# Altium schematic symbol library MCD_Rev2.SchLib: 19 symbols
Pins are listed as number, name and electrical type; pins without a type are passive.

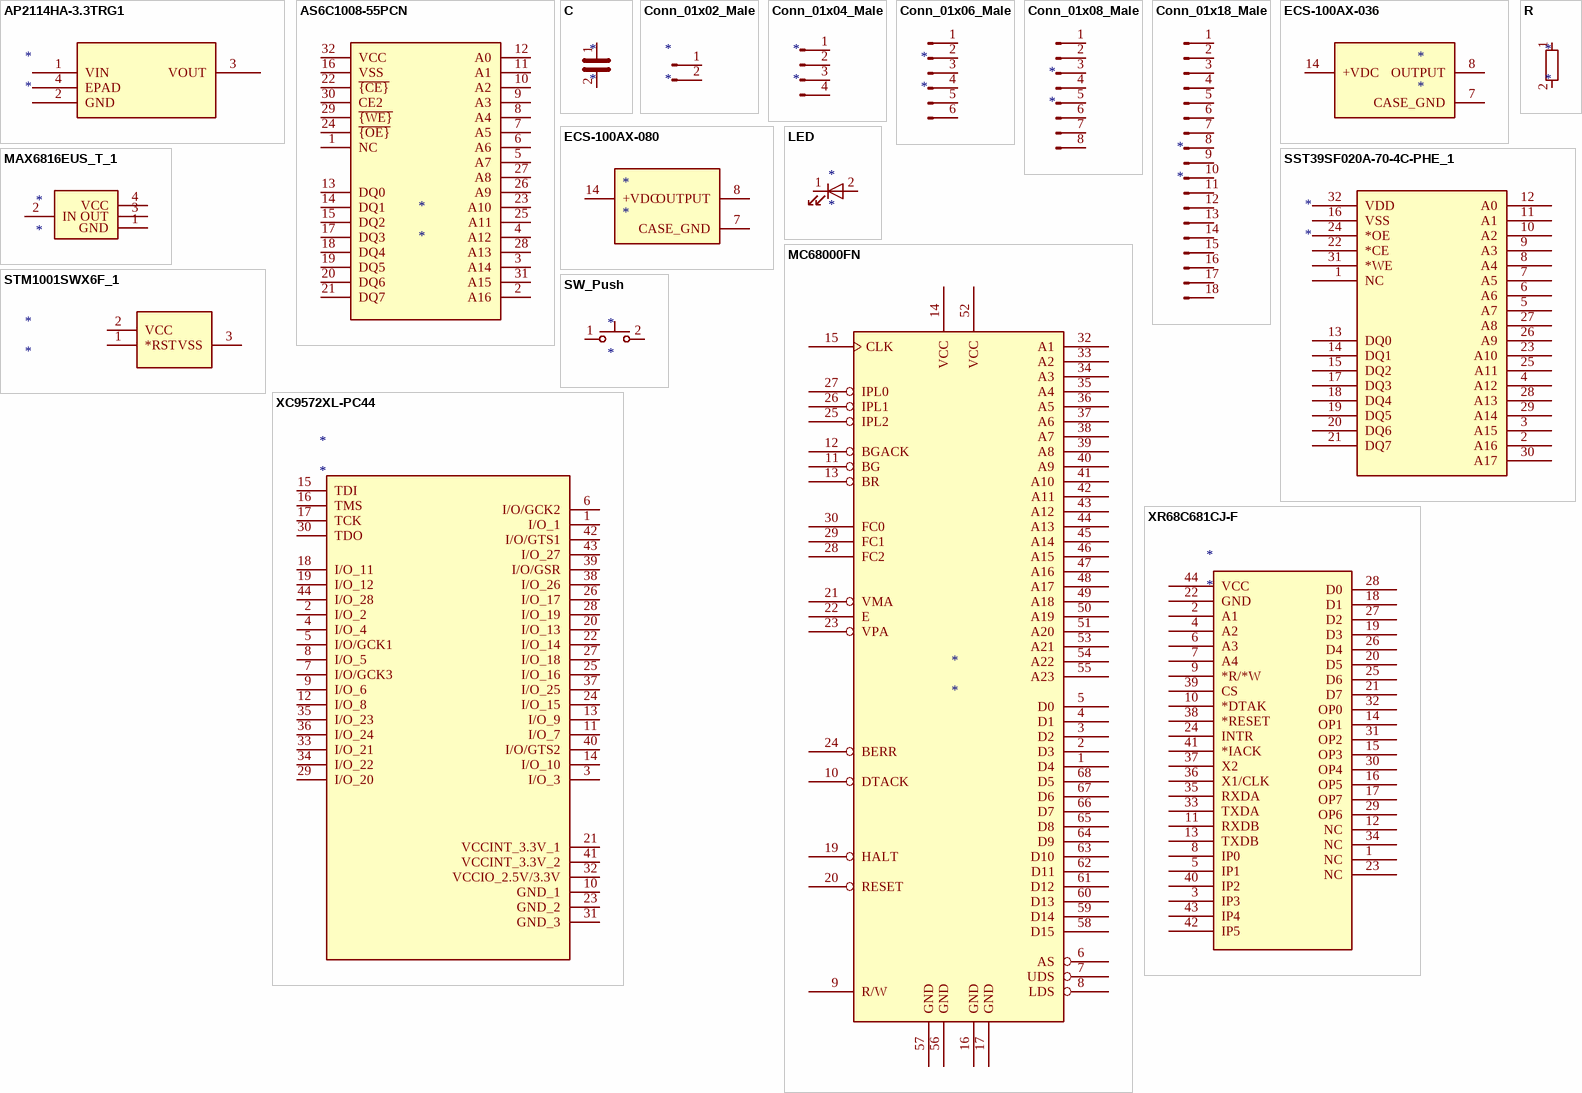
[diagram p0: symbols AP2114HA-3.3TRG1 to XR68C681CJ-F]

## AP2114HA-3.3TRG1
designator *
pins: 1 VIN, 2 GND, 3 VOUT, 4 EPAD

## AS6C1008-55PCN
designator *
pins: 1 NC, 2 A16, 3 A14, 4 A12, 5 A7, 6 A6, 7 A5, 8 A4, 9 A3, 10 A2, 11 A1, 12 A0, 13 DQ0, 14 DQ1, 15 DQ2, 16 VSS, 17 DQ3, 18 DQ4, 19 DQ5, 20 DQ6, 21 DQ7, 22 ~{{CE}}, 23 A10, 24 ~{{OE}}, 25 A11, 26 A9, 27 A8, 28 A13, 29 ~{{WE}}, 30 CE2, 31 A15, 32 VCC

## C
designator *
pins: 1, 2

## Conn_01x02_Male
designator *
pins: 1 Pin_1, 2 Pin_2

## Conn_01x04_Male
designator *
pins: 1 Pin_1, 2 Pin_2, 3 Pin_3, 4 Pin_4

## Conn_01x06_Male
designator *
pins: 1 Pin_1, 2 Pin_2, 3 Pin_3, 4 Pin_4, 5 Pin_5, 6 Pin_6

## Conn_01x08_Male
designator *
pins: 1 Pin_1, 2 Pin_2, 3 Pin_3, 4 Pin_4, 5 Pin_5, 6 Pin_6, 7 Pin_7, 8 Pin_8

## Conn_01x18_Male
designator *
pins: 1 Pin_1, 2 Pin_2, 3 Pin_3, 4 Pin_4, 5 Pin_5, 6 Pin_6, 7 Pin_7, 8 Pin_8, 9 Pin_9, 10 Pin_10, 11 Pin_11, 12 Pin_12, 13 Pin_13, 14 Pin_14, 15 Pin_15, 16 Pin_16, 17 Pin_17, 18 Pin_18

## ECS-100AX-036
designator *
pins: 7 CASE_GND, 8 OUTPUT, 14 +VDC

## ECS-100AX-080
designator *
pins: 7 CASE_GND, 8 OUTPUT, 14 +VDC

## LED
designator *
pins: 1 K, 2 A

## MAX6816EUS_T_1
designator *
pins: 1 GND, 2 IN, 3 OUT, 4 VCC

## MC68000FN
designator *
pins: 1 D4, 2 D3, 3 D2, 4 D1, 5 D0, 6 AS, 7 UDS, 8 LDS, 9 R/W, 10 DTACK, 11 BG, 12 BGACK, 13 BR, 14 VCC, 15 CLK, 16 GND, 17 GND, 18 NC hidden, 19 HALT, 20 RESET, 21 VMA, 22 E, 23 VPA, 24 BERR, 25 IPL2, 26 IPL1, 27 IPL0, 28 FC2, 29 FC1, 30 FC0, 31 NC hidden, 32 A1, 33 A2, 34 A3, 35 A4, 36 A5, 37 A6, 38 A7, 39 A8, 40 A9, 41 A10, 42 A11, 43 A12, 44 A13, 45 A14, 46 A15, 47 A16, 48 A17, 49 A18, 50 A19, 51 A20, 52 VCC, 53 A21, 54 A22, 55 A23, 56 GND, 57 GND, 58 D15, 59 D14, 60 D13, 61 D12, 62 D11, 63 D10, 64 D9, 65 D8, 66 D7, 67 D6, 68 D5

## R
designator *
pins: 1, 2

## SST39SF020A-70-4C-PHE_1
designator *
pins: 1 NC, 2 A16, 3 A15, 4 A12, 5 A7, 6 A6, 7 A5, 8 A4, 9 A3, 10 A2, 11 A1, 12 A0, 13 DQ0, 14 DQ1, 15 DQ2, 16 VSS, 17 DQ3, 18 DQ4, 19 DQ5, 20 DQ6, 21 DQ7, 22 *CE, 23 A10, 24 *OE, 25 A11, 26 A9, 27 A8, 28 A13, 29 A14, 30 A17, 31 *WE, 32 VDD

## STM1001SWX6F_1
designator *
pins: 1 *RST, 2 VCC, 3 VSS

## SW_Push
designator *
pins: 1, 2

## XC9572XL-PC44
designator *
pins: 1 I/O_1, 2 I/O_2, 3 I/O_3, 4 I/O_4, 5 I/O/GCK1, 6 I/O/GCK2, 7 I/O/GCK3, 8 I/O_5, 9 I/O_6, 10 GND_1, 11 I/O_7, 12 I/O_8, 13 I/O_9, 14 I/O_10, 15 TDI, 16 TMS, 17 TCK, 18 I/O_11, 19 I/O_12, 20 I/O_13, 21 VCCINT_3.3V_1, 22 I/O_14, 23 GND_2, 24 I/O_15, 25 I/O_16, 26 I/O_17, 27 I/O_18, 28 I/O_19, 29 I/O_20, 30 TDO, 31 GND_3, 32 VCCIO_2.5V/3.3V, 33 I/O_21, 34 I/O_22, 35 I/O_23, 36 I/O_24, 37 I/O_25, 38 I/O_26, 39 I/O/GSR, 40 I/O/GTS2, 41 VCCINT_3.3V_2, 42 I/O/GTS1, 43 I/O_27, 44 I/O_28

## XR68C681CJ-F
designator *
pins: 1 NC, 2 A1, 3 IP3, 4 A2, 5 IP1, 6 A3, 7 A4, 8 IP0, 9 *R/*W, 10 *DTAK, 11 RXDB, 12 NC, 13 TXDB, 14 OP1, 15 OP3, 16 OP5, 17 OP7, 18 D1, 19 D3, 20 D5, 21 D7, 22 GND, 23 NC, 24 INTR, 25 D6, 26 D4, 27 D2, 28 D0, 29 OP6, 30 OP4, 31 OP2, 32 OP0, 33 TXDA, 34 NC, 35 RXDA, 36 X1/CLK, 37 X2, 38 *RESET, 39 CS, 40 IP2, 41 *IACK, 42 IP5, 43 IP4, 44 VCC